# Altium footprint library WPME-CDI2C.PcbLib: 1 footprints
Each footprint in its own frame and in the unit in brackets; x right, y up, seen from the top. Pads: shape width x height; smd on the part's side, far side on the other; paste and mask are expansions set on the pad; w line width, h text height; cw(c..) or ccw(c..) is an arc to the next point about the centre after c.
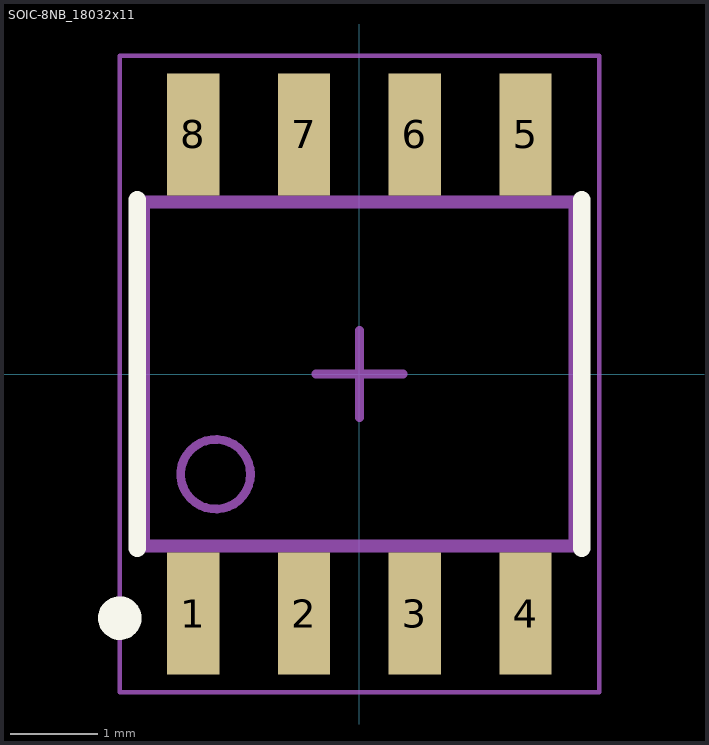
[diagram p0: the footprint, top view; thin cyan lines are the x and y axes]

## SOIC-8NB_18032x11 [mm] "Capacitive Digital Isolator, SOIC-8NB, 4.9 x 6.0 x 1.8"
height 1.8
pads (8):
  rect 0.6x1.4 smd: 1(-1.905,-2.75) 2(-0.635,-2.75) 3(0.635,-2.75) 4(1.905,-2.75) 5(1.905,2.75) 6(0.635,2.75) 7(-0.635,2.75) 8(-1.905,2.75)
Top Overlay:
  circle w0.25: c-2.75,-2.8 r0.125
  lines w0.2: -2.55,-2 -2.55,2 ; 2.55,-2 2.55,2
Top Assembly:
  circle w0.1: c-1.65,-1.15 r0.4
  lines w0.1: -2.55,-2 -2.55,2 2.55,2 2.55,-2 -2.55,-2
Top Designator:
  text ".Designator" at -3.647,-0.357 h1
Top 3D Body:
  circle w0.1: c-1.65,-1.15 r0.4
  lines w0.1: -2.45,-1.95 -2.45,1.95 2.45,1.95 2.45,-1.95 -2.45,-1.95
Top Courtyard:
  lines w0.05: -2.75,-3.65 -2.75,3.65 2.75,3.65 2.75,-3.65 -2.75,-3.65
Top Component Center:
  lines w0.1: -0.5,0 0.5,0 ; 0,-0.5 0,0.5
3D body "18032x11.stp": height 1.8, standoff 0, extent -2.45,-3 2.45,3